# EAGLE library part VGA_DB15 (library mw-voice-marker)
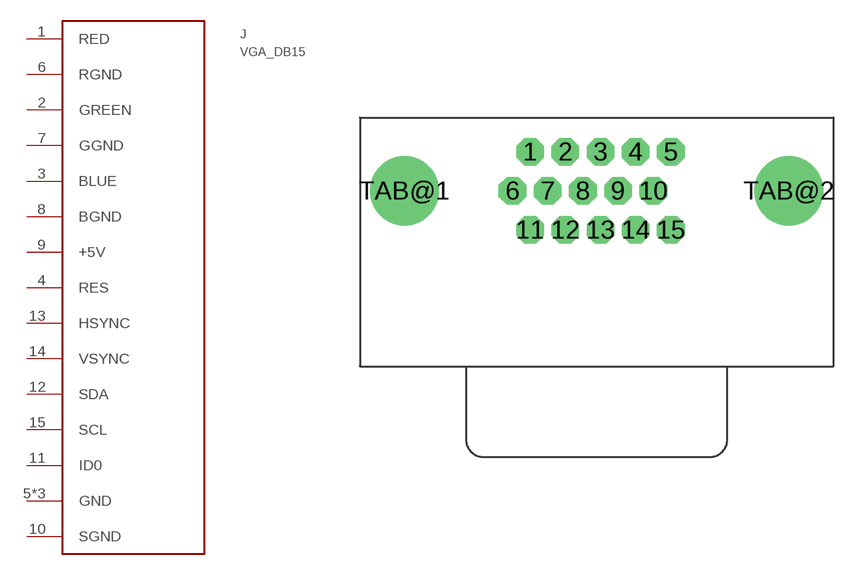
[diagram p0: symbol with the pads of VGA_PCB_MALE; footprint VGA_PCB_MALE]

Designator prefix J

## VGA_DB15  [VGA_PCB_MALE]
1  RED
2  GREEN
3  BLUE
4  RES
5  GND
6  RGND
7  GGND
8  BGND
9  +5V
10  SGND
11  ID0
12  SDA
13  HSYNC
14  VSYNC
15  SCL
TAB@1  GND
TAB@2  GND

## Footprint VGA_PCB_MALE (pad centres in mm)
drill 1.2 octagon: 1 -4.33,2.54; 2 -2.04,2.54; 3 0.25,2.54; 4 2.54,2.54; 5 4.83,2.54; 6 -5.475,0; 7 -3.185,0; 8 -0.895,0; 9 1.395,0; 10 3.685,0; 11 -4.33,-2.54; 12 -2.04,-2.54; 13 0.25,-2.54; 14 2.54,-2.54; 15 4.83,-2.54
drill 3.1 pad 4.5: TAB@1 -12.5,0; TAB@2 12.5,0